# EAGLE library part DLPC2607ZVB (library DLP_TI)
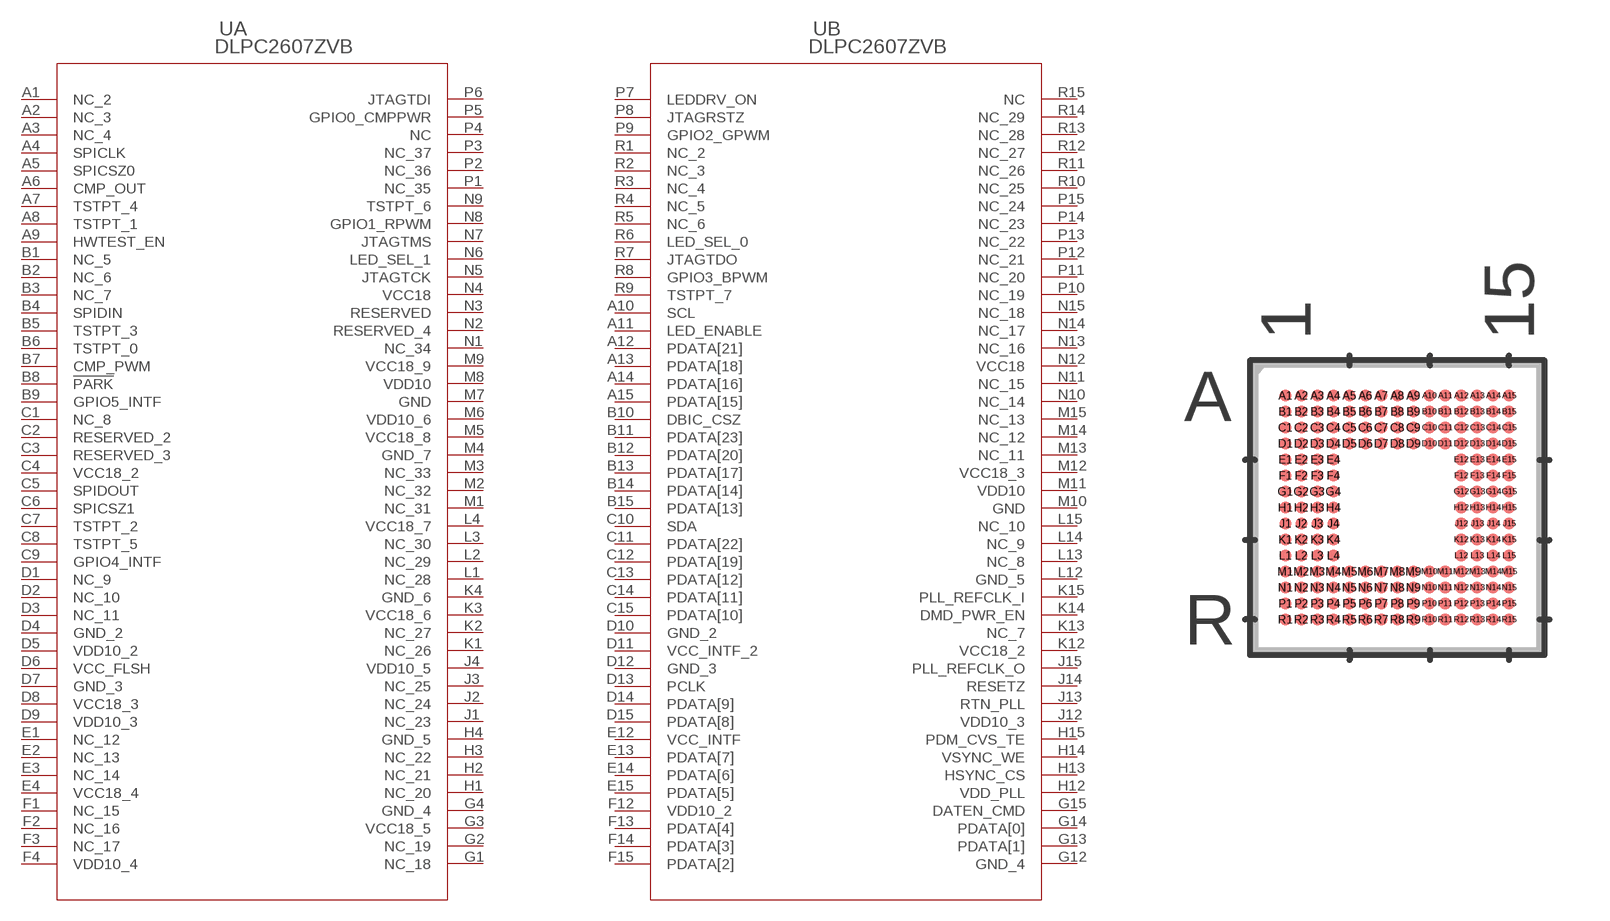
[diagram p0: symbol with the pads of ZVB176_TEX; footprint ZVB176_TEX]

Designator prefix U; gates A=DLPC2607ZVB_A B=DLPC2607ZVB_B

## DLPC2607ZVB (BUILT_BY: EMA_UL_Team; MANUFACTURER_PART_NUMBER: DLPC2607ZVB; SOURCELIBRARY: TI_2016-08-12; VENDOR: Texas Instruments)  [ZVB176_TEX]
A1  A:NC_2  nc
A2  A:NC_3  nc
A3  A:NC_4  nc
A4  A:SPICLK  out
A5  A:SPICSZ0  out
A6  A:CMP_OUT  in
A7  A:TSTPT_4
A8  A:TSTPT_1
A9  A:HWTEST_EN  in
A10  B:SCL
A11  B:LED_ENABLE  in
A12  B:PDATA[21]  in
A13  B:PDATA[18]  in
A14  B:PDATA[16]  in
A15  B:PDATA[15]  in
B1  A:NC_5  nc
B2  A:NC_6  nc
B3  A:NC_7  nc
B4  A:SPIDIN  in
B5  A:TSTPT_3
B6  A:TSTPT_0
B7  A:CMP_PWM  out
B8  A:!PARK  in
B9  A:GPIO5_INTF
B10  B:DBIC_CSZ  in
B11  B:PDATA[23]  in
B12  B:PDATA[20]  in
B13  B:PDATA[17]  in
B14  B:PDATA[14]  in
B15  B:PDATA[13]  in
C1  A:NC_8  nc
C2  A:RESERVED_2  pas
C3  A:RESERVED_3  pas
C4  A:VCC18_2  pwr
C5  A:SPIDOUT  out
C6  A:SPICSZ1  out
C7  A:TSTPT_2
C8  A:TSTPT_5
C9  A:GPIO4_INTF
C10  B:SDA
C11  B:PDATA[22]  in
C12  B:PDATA[19]  in
C13  B:PDATA[12]  in
C14  B:PDATA[11]  in
C15  B:PDATA[10]  in
D1  A:NC_9  nc
D2  A:NC_10  nc
D3  A:NC_11  nc
D4  A:GND_2  pwr
D5  A:VDD10_2  pwr
D6  A:VCC_FLSH  pwr
D7  A:GND_3  pwr
D8  A:VCC18_3  pwr
D9  A:VDD10_3  pwr
D10  B:GND_2  pwr
D11  B:VCC_INTF_2  pwr
D12  B:GND_3  pwr
D13  B:PCLK  in
D14  B:PDATA[9]  in
D15  B:PDATA[8]  in
E1  A:NC_12  nc
E2  A:NC_13  nc
E3  A:NC_14  nc
E4  A:VCC18_4  pwr
E12  B:VCC_INTF  pwr
E13  B:PDATA[7]  in
E14  B:PDATA[6]  in
E15  B:PDATA[5]  in
F1  A:NC_15  nc
F2  A:NC_16  nc
F3  A:NC_17  nc
F4  A:VDD10_4  pwr
F12  B:VDD10_2  pwr
F13  B:PDATA[4]  in
F14  B:PDATA[3]  in
F15  B:PDATA[2]  in
G1  A:NC_18  nc
G2  A:NC_19  nc
G3  A:VCC18_5  pwr
G4  A:GND_4  pwr
G12  B:GND_4  pwr
G13  B:PDATA[1]  in
G14  B:PDATA[0]  in
G15  B:DATEN_CMD  in
H1  A:NC_20  nc
H2  A:NC_21  nc
H3  A:NC_22  nc
H4  A:GND_5  pwr
H12  B:VDD_PLL  pwr
H13  B:HSYNC_CS  in
H14  B:VSYNC_WE  in
H15  B:PDM_CVS_TE
J1  A:NC_23  nc
J2  A:NC_24  nc
J3  A:NC_25  nc
J4  A:VDD10_5  pwr
J12  B:VDD10_3  pwr
J13  B:RTN_PLL  pas
J14  B:RESETZ  in
J15  B:PLL_REFCLK_O  out
K1  A:NC_26  nc
K2  A:NC_27  nc
K3  A:VCC18_6  pwr
K4  A:GND_6  pwr
K12  B:VCC18_2  pwr
K13  B:NC_7  nc
K14  B:DMD_PWR_EN  out
K15  B:PLL_REFCLK_I  in
L1  A:NC_28  nc
L2  A:NC_29  nc
L3  A:NC_30  nc
L4  A:VCC18_7  pwr
L12  B:GND_5  pwr
L13  B:NC_8  nc
L14  B:NC_9  nc
L15  B:NC_10  nc
M1  A:NC_31  nc
M2  A:NC_32  nc
M3  A:NC_33  nc
M4  A:GND_7  pwr
M5  A:VCC18_8  pwr
M6  A:VDD10_6  pwr
M7  A:GND  pwr
M8  A:VDD10  pwr
M9  A:VCC18_9  pwr
M10  B:GND  pwr
M11  B:VDD10  pwr
M12  B:VCC18_3  pwr
M13  B:NC_11  nc
M14  B:NC_12  nc
M15  B:NC_13  nc
N1  A:NC_34  nc
N2  A:RESERVED_4  pas
N3  A:RESERVED  pas
N4  A:VCC18  pwr
N5  A:JTAGTCK  in
N6  A:LED_SEL_1  out
N7  A:JTAGTMS  in
N8  A:GPIO1_RPWM  out
N9  A:TSTPT_6
N10  B:NC_14  nc
N11  B:NC_15  nc
N12  B:VCC18  pwr
N13  B:NC_16  nc
N14  B:NC_17  nc
N15  B:NC_18  nc
P1  A:NC_35  nc
P2  A:NC_36  nc
P3  A:NC_37  nc
P4  A:NC  nc
P5  A:GPIO0_CMPPWR
P6  A:JTAGTDI  in
P7  B:LEDDRV_ON  out
P8  B:JTAGRSTZ  in
P9  B:GPIO2_GPWM  out
P10  B:NC_19  nc
P11  B:NC_20  nc
P12  B:NC_21  nc
P13  B:NC_22  nc
P14  B:NC_23  nc
P15  B:NC_24  nc
R1  B:NC_2  nc
R2  B:NC_3  nc
R3  B:NC_4  nc
R4  B:NC_5  nc
R5  B:NC_6  nc
R6  B:LED_SEL_0  out
R7  B:JTAGTDO  out
R8  B:GPIO3_BPWM  out
R9  B:TSTPT_7
R10  B:NC_25  nc
R11  B:NC_26  nc
R12  B:NC_27  nc
R13  B:NC_28  nc
R14  B:NC_29  nc
R15  B:NC  nc

## Footprint ZVB176_TEX (pad centres in mm)
smd 0.305 x 0.305: A1 -2.8,2.8; A2 -2.4,2.8; A3 -2,2.8; A4 -1.6,2.8; A5 -1.2,2.8; A6 -0.8,2.8; A7 -0.4,2.8; A8 0,2.8; A9 0.4,2.8; A10 0.8,2.8; A11 1.2,2.8; A12 1.6,2.8; A13 2,2.8; A14 2.4,2.8; A15 2.8,2.8; B1 -2.8,2.4; B2 -2.4,2.4; B3 -2,2.4; B4 -1.6,2.4; B5 -1.2,2.4; B6 -0.8,2.4; B7 -0.4,2.4; B8 0,2.4; B9 0.4,2.4; B10 0.8,2.4; B11 1.2,2.4; B12 1.6,2.4; B13 2,2.4; B14 2.4,2.4; B15 2.8,2.4; C1 -2.8,2; C2 -2.4,2; C3 -2,2; C4 -1.6,2; C5 -1.2,2; C6 -0.8,2; C7 -0.4,2; C8 0,2; C9 0.4,2; C10 0.8,2; C11 1.2,2; C12 1.6,2; C13 2,2; C14 2.4,2; C15 2.8,2; D1 -2.8,1.6; D2 -2.4,1.6; D3 -2,1.6; D4 -1.6,1.6; D5 -1.2,1.6; D6 -0.8,1.6; D7 -0.4,1.6; D8 0,1.6; D9 0.4,1.6; D10 0.8,1.6; D11 1.2,1.6; D12 1.6,1.6; D13 2,1.6; D14 2.4,1.6; D15 2.8,1.6; E1 -2.8,1.2; E2 -2.4,1.2; E3 -2,1.2; E4 -1.6,1.2; E12 1.6,1.2; E13 2,1.2; E14 2.4,1.2; E15 2.8,1.2; F1 -2.8,0.8; F2 -2.4,0.8; F3 -2,0.8; F4 -1.6,0.8; F12 1.6,0.8; F13 2,0.8; F14 2.4,0.8; F15 2.8,0.8; G1 -2.8,0.4; G2 -2.4,0.4; G3 -2,0.4; G4 -1.6,0.4; G12 1.6,0.4; G13 2,0.4; G14 2.4,0.4; G15 2.8,0.4; H1 -2.8,0; H2 -2.4,0; H3 -2,0; H4 -1.6,0; H12 1.6,0; H13 2,0; H14 2.4,0; H15 2.8,0; J1 -2.8,-0.4; J2 -2.4,-0.4; J3 -2,-0.4; J4 -1.6,-0.4; J12 1.6,-0.4; J13 2,-0.4; J14 2.4,-0.4; J15 2.8,-0.4; K1 -2.8,-0.8; K2 -2.4,-0.8; K3 -2,-0.8; K4 -1.6,-0.8; K12 1.6,-0.8; K13 2,-0.8; K14 2.4,-0.8; K15 2.8,-0.8; L1 -2.8,-1.2; L2 -2.4,-1.2; L3 -2,-1.2; L4 -1.6,-1.2; L12 1.6,-1.2; L13 2,-1.2; L14 2.4,-1.2; L15 2.8,-1.2; M1 -2.8,-1.6; M2 -2.4,-1.6; M3 -2,-1.6; M4 -1.6,-1.6; M5 -1.2,-1.6; M6 -0.8,-1.6; M7 -0.4,-1.6; M8 0,-1.6; M9 0.4,-1.6; M10 0.8,-1.6; M11 1.2,-1.6; M12 1.6,-1.6; M13 2,-1.6; M14 2.4,-1.6; M15 2.8,-1.6; N1 -2.8,-2; N2 -2.4,-2; N3 -2,-2; N4 -1.6,-2; N5 -1.2,-2; N6 -0.8,-2; N7 -0.4,-2; N8 0,-2; N9 0.4,-2; N10 0.8,-2; N11 1.2,-2; N12 1.6,-2; N13 2,-2; N14 2.4,-2; N15 2.8,-2; P1 -2.8,-2.4; P2 -2.4,-2.4; P3 -2,-2.4; P4 -1.6,-2.4; P5 -1.2,-2.4; P6 -0.8,-2.4; P7 -0.4,-2.4; P8 0,-2.4; P9 0.4,-2.4; P10 0.8,-2.4; P11 1.2,-2.4; P12 1.6,-2.4; P13 2,-2.4; P14 2.4,-2.4; P15 2.8,-2.4; R1 -2.8,-2.8; R2 -2.4,-2.8; R3 -2,-2.8; R4 -1.6,-2.8; R5 -1.2,-2.8; R6 -0.8,-2.8; R7 -0.4,-2.8; R8 0,-2.8; R9 0.4,-2.8; R10 0.8,-2.8; R11 1.2,-2.8; R12 1.6,-2.8; R13 2,-2.8; R14 2.4,-2.8; R15 2.8,-2.8